# Altium footprint library USB3320C-EZK-TR.PcbLib: 3 footprints
Each footprint in its own frame and in the unit in brackets; x right, y up, seen from the top. Pads: shape width x height; smd on the part's side, far side on the other; paste and mask are expansions set on the pad; w line width, h text height; cw(c..) or ccw(c..) is an arc to the next point about the centre after c.
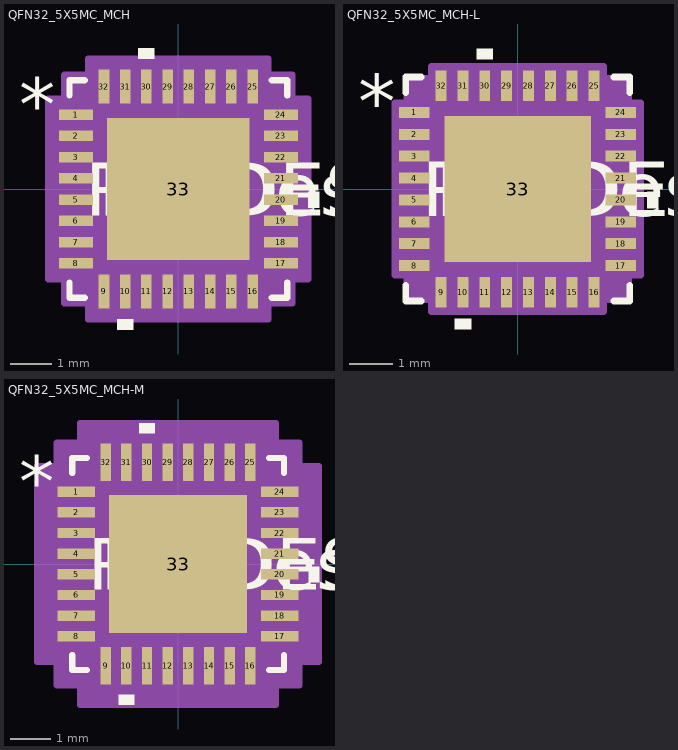
[diagram p0: the footprints below, top view; thin cyan lines are the x and y axes]

## QFN32_5X5MC_MCH [mil]
pads (33):
  rect 32x10 smd paste+0 mask+0: 1(-96.5,70) 2(-96.5,50) 3(-96.5,30) 4(-96.5,10) 5(-96.5,-10) 6(-96.5,-30) 7(-96.5,-50) 8(-96.5,-70) 17(96.5,-70) 18(96.5,-50) 19(96.5,-30) 20(96.5,-10) 21(96.5,10) 22(96.5,30) 23(96.5,50) 24(96.5,70)
  rect 10x32 smd paste+0 mask+0: 9(-70,-96.5) 10(-50,-96.5) 11(-30,-96.5) 12(-10,-96.5) 13(10,-96.5) 14(30,-96.5) 15(50,-96.5) 16(70,-96.5) 25(70,96.5) 26(50,96.5) 27(30,96.5) 28(10,96.5) 29(-10,96.5) 30(-30,96.5) 31(-50,96.5) 32(-70,96.5)
  rect 134x134 smd paste-66.5 mask-66.5: 33(0,0)
Top Overlay:
  region: -42.5,-122.5 -57.5,-122.5 -57.5,-132.5 -42.5,-132.5
  region: 122.5,-2.5 132.5,-2.5 132.5,-17.5 122.5,-17.5
  region: -22.5,122.5 -37.5,122.5 -37.5,132.5 -22.5,132.5
  lines w6: -102.5,-88.1 -102.5,-102.5 -88.1,-102.5 ; -102.5,88.1 -102.5,102.5 -88.1,102.5 ; 88.1,-102.5 102.5,-102.5 102.5,-88.1 ; 88.1,102.5 102.5,102.5 102.5,88.1
  text "*" at -150,55 h50
  text "RefDes" at -75,-25 h50
  text "REFDES" at -87.5,-25 h50
Top Paste:
  drawing of 25 lines, arcs and shapes, not listed
Top Solder:
  region: -69.5,54.37 -69.5,69.5 69.5,69.5 69.5,54.37
  region: -69.5,23.37 -69.5,38.63 69.5,38.63 69.5,23.37
  region: -69.5,-7.63 -69.5,7.63 69.5,7.63 69.5,-7.63
  region: -69.5,-38.63 -69.5,-23.37 69.5,-23.37 69.5,-38.63
  region: -69.5,-69.5 -69.5,-54.37 69.5,-54.37 69.5,-69.5
  region: -69.5,-69.5 -69.5,69.5 -54.37,69.5 -54.37,-69.5
  region: -23.37,-69.5 -23.37,69.5 -38.63,69.5 -38.63,-69.5
  region: 7.63,-69.5 7.63,69.5 -7.63,69.5 -7.63,-69.5
  region: 38.63,-69.5 38.63,69.5 23.37,69.5 23.37,-69.5
  region: 54.37,-69.5 54.37,69.5 69.5,69.5 69.5,-69.5
Mechanical 13:
  lines w1: -97.5,47.5 -47.5,97.5 ; -97.5,-97.5 97.5,-97.5 ; -97.5,-97.5 -97.5,97.5 ; -97.5,-97.5 -97.5,-97.5 ; -97.5,97.5 97.5,97.5 ; -97.5,97.5 -97.5,97.5 ; 97.5,-97.5 97.5,-97.5 ; 97.5,-97.5 97.5,97.5 ; 97.5,97.5 97.5,97.5 ; -100.5,-76 -100.5,-64 -97.5,-64 -97.5,-76 -100.5,-76 ; -100.5,-56 -100.5,-44 -97.5,-44 -97.5,-56 -100.5,-56 ; -100.5,-36 -100.5,-24 -97.5,-24 -97.5,-36 -100.5,-36 ; -100.5,-16 -100.5,-4 -97.5,-4 -97.5,-16 -100.5,-16 ; -100.5,4 -100.5,16 -97.5,16 -97.5,4 -100.5,4 ; -100.5,24 -100.5,36 -97.5,36 -97.5,24 -100.5,24 ; -100.5,44 -100.5,56 -97.5,56 -97.5,44 -100.5,44 ; -100.5,64 -100.5,76 -97.5,76 -97.5,64 -100.5,64 ; -76,-100.5 -76,-97.5 -64,-97.5 -64,-100.5 -76,-100.5 ; -76,97.5 -64,97.5 -64,100.5 -76,100.5 -76,97.5 ; -56,-100.5 -56,-97.5 -44,-97.5 -44,-100.5 -56,-100.5 ; -56,97.5 -44,97.5 -44,100.5 -56,100.5 -56,97.5 ; -36,-100.5 -36,-97.5 -24,-97.5 -24,-100.5 -36,-100.5 ; -36,97.5 -24,97.5 -24,100.5 -36,100.5 -36,97.5 ; -16,-100.5 -16,-97.5 -4,-97.5 -4,-100.5 -16,-100.5 ; -16,97.5 -4,97.5 -4,100.5 -16,100.5 -16,97.5 ; 4,-100.5 4,-97.5 16,-97.5 16,-100.5 4,-100.5 ; 4,97.5 16,97.5 16,100.5 4,100.5 4,97.5 ; 24,-100.5 24,-97.5 36,-97.5 36,-100.5 24,-100.5 ; 24,97.5 36,97.5 36,100.5 24,100.5 24,97.5 ; 44,-100.5 44,-97.5 56,-97.5 56,-100.5 44,-100.5 ; 44,97.5 56,97.5 56,100.5 44,100.5 44,97.5 ; 64,-100.5 64,-97.5 76,-97.5 76,-100.5 64,-100.5 ; 64,97.5 76,97.5 76,100.5 64,100.5 64,97.5 ; 97.5,-76 97.5,-64 100.5,-64 100.5,-76 97.5,-76 ; 97.5,-56 97.5,-44 100.5,-44 100.5,-56 97.5,-56 ; 97.5,-36 97.5,-24 100.5,-24 100.5,-36 97.5,-36 ; 97.5,-16 97.5,-4 100.5,-4 100.5,-16 97.5,-16 ; 97.5,4 97.5,16 100.5,16 100.5,4 97.5,4 ; 97.5,24 97.5,36 100.5,36 100.5,24 97.5,24 ; 97.5,44 97.5,56 100.5,56 100.5,44 97.5,44 ; 97.5,64 97.5,76 100.5,76 100.5,64 97.5,64
  text "*" at -93,55 h50
  text "RefDes2" at -87.5,-25 h50
Mechanical 15:
  region: -85,-107.5 -107.5,-107.5 -107.5,-85 -122.5,-85 -122.5,85 -107.5,85 -107.5,107.5 -85,107.5 -85,122.5 85,122.5 85,107.5 107.5,107.5 107.5,85 122.5,85 122.5,-85 107.5,-85 107.5,-107.5 85,-107.5 85,-122.5 -85,-122.5
  lines w6: -122.5,-85 -107.5,-85 -107.5,-107.5 -85,-107.5 -85,-122.5 85,-122.5 85,-107.5 107.5,-107.5 107.5,-85 122.5,-85 122.5,85 107.5,85 107.5,107.5 85,107.5 85,122.5 -85,122.5 -85,107.5 -107.5,107.5 -107.5,85 -122.5,85 -122.5,-85
Via Holes:
  circle w10: c-46.5,-46.5 r15
  circle w10: c-46.5,-15.5 r15
  circle w10: c-46.5,15.5 r15
  circle w10: c-46.5,46.5 r15
  circle w10: c-15.5,-46.5 r15
  circle w10: c-15.5,-15.5 r15
  circle w10: c-15.5,15.5 r15
  circle w10: c-15.5,46.5 r15
  circle w10: c15.5,-46.5 r15
  circle w10: c15.5,-15.5 r15
  circle w10: c15.5,15.5 r15
  circle w10: c15.5,46.5 r15
  circle w10: c46.5,-46.5 r15
  circle w10: c46.5,-15.5 r15
  circle w10: c46.5,15.5 r15
  circle w10: c46.5,46.5 r15
3D body "QFN32_5X5MC_MCH.step": height 65.12, standoff 0, extent -100.51,-100.51 100.51,100.51

## QFN32_5X5MC_MCH-L [mil]
pads (33):
  rect 28x10 smd paste+0 mask+0: 1(-94.5,70) 2(-94.5,50) 3(-94.5,30) 4(-94.5,10) 5(-94.5,-10) 6(-94.5,-30) 7(-94.5,-50) 8(-94.5,-70) 17(94.5,-70) 18(94.5,-50) 19(94.5,-30) 20(94.5,-10) 21(94.5,10) 22(94.5,30) 23(94.5,50) 24(94.5,70)
  rect 10x28 smd paste+0 mask+0: 9(-70,-94.5) 10(-50,-94.5) 11(-30,-94.5) 12(-10,-94.5) 13(10,-94.5) 14(30,-94.5) 15(50,-94.5) 16(70,-94.5) 25(70,94.5) 26(50,94.5) 27(30,94.5) 28(10,94.5) 29(-10,94.5) 30(-30,94.5) 31(-50,94.5) 32(-70,94.5)
  rect 134x134 smd paste-66.5 mask-66.5: 33(0,0)
Top Overlay:
  region: -42.5,-118.5 -57.5,-118.5 -57.5,-128.5 -42.5,-128.5
  region: 118.5,-2.5 128.5,-2.5 128.5,-17.5 118.5,-17.5
  region: -22.5,118.5 -37.5,118.5 -37.5,128.5 -22.5,128.5
  lines w6: -102.5,-88.1 -102.5,-102.5 -88.1,-102.5 ; -102.5,88.1 -102.5,102.5 -88.1,102.5 ; 88.1,-102.5 102.5,-102.5 102.5,-88.1 ; 88.1,102.5 102.5,102.5 102.5,88.1
  text "*" at -146,55 h50
  text "RefDes" at -75,-25 h50
  text "REFDES" at -87.5,-25 h50
Top Paste:
  drawing of 25 lines, arcs and shapes, not listed
Top Solder:
  region: -69.5,54.37 -69.5,69.5 69.5,69.5 69.5,54.37
  region: -69.5,23.37 -69.5,38.63 69.5,38.63 69.5,23.37
  region: -69.5,-7.63 -69.5,7.63 69.5,7.63 69.5,-7.63
  region: -69.5,-38.63 -69.5,-23.37 69.5,-23.37 69.5,-38.63
  region: -69.5,-69.5 -69.5,-54.37 69.5,-54.37 69.5,-69.5
  region: -69.5,-69.5 -69.5,69.5 -54.37,69.5 -54.37,-69.5
  region: -23.37,-69.5 -23.37,69.5 -38.63,69.5 -38.63,-69.5
  region: 7.63,-69.5 7.63,69.5 -7.63,69.5 -7.63,-69.5
  region: 38.63,-69.5 38.63,69.5 23.37,69.5 23.37,-69.5
  region: 54.37,-69.5 54.37,69.5 69.5,69.5 69.5,-69.5
Mechanical 13:
  lines w1: -97.5,47.5 -47.5,97.5 ; -97.5,-97.5 97.5,-97.5 ; -97.5,-97.5 -97.5,97.5 ; -97.5,-97.5 -97.5,-97.5 ; -97.5,97.5 97.5,97.5 ; -97.5,97.5 -97.5,97.5 ; 97.5,-97.5 97.5,-97.5 ; 97.5,-97.5 97.5,97.5 ; 97.5,97.5 97.5,97.5 ; -100.5,-76 -100.5,-64 -97.5,-64 -97.5,-76 -100.5,-76 ; -100.5,-56 -100.5,-44 -97.5,-44 -97.5,-56 -100.5,-56 ; -100.5,-36 -100.5,-24 -97.5,-24 -97.5,-36 -100.5,-36 ; -100.5,-16 -100.5,-4 -97.5,-4 -97.5,-16 -100.5,-16 ; -100.5,4 -100.5,16 -97.5,16 -97.5,4 -100.5,4 ; -100.5,24 -100.5,36 -97.5,36 -97.5,24 -100.5,24 ; -100.5,44 -100.5,56 -97.5,56 -97.5,44 -100.5,44 ; -100.5,64 -100.5,76 -97.5,76 -97.5,64 -100.5,64 ; -76,-100.5 -76,-97.5 -64,-97.5 -64,-100.5 -76,-100.5 ; -76,97.5 -64,97.5 -64,100.5 -76,100.5 -76,97.5 ; -56,-100.5 -56,-97.5 -44,-97.5 -44,-100.5 -56,-100.5 ; -56,97.5 -44,97.5 -44,100.5 -56,100.5 -56,97.5 ; -36,-100.5 -36,-97.5 -24,-97.5 -24,-100.5 -36,-100.5 ; -36,97.5 -24,97.5 -24,100.5 -36,100.5 -36,97.5 ; -16,-100.5 -16,-97.5 -4,-97.5 -4,-100.5 -16,-100.5 ; -16,97.5 -4,97.5 -4,100.5 -16,100.5 -16,97.5 ; 4,-100.5 4,-97.5 16,-97.5 16,-100.5 4,-100.5 ; 4,97.5 16,97.5 16,100.5 4,100.5 4,97.5 ; 24,-100.5 24,-97.5 36,-97.5 36,-100.5 24,-100.5 ; 24,97.5 36,97.5 36,100.5 24,100.5 24,97.5 ; 44,-100.5 44,-97.5 56,-97.5 56,-100.5 44,-100.5 ; 44,97.5 56,97.5 56,100.5 44,100.5 44,97.5 ; 64,-100.5 64,-97.5 76,-97.5 76,-100.5 64,-100.5 ; 64,97.5 76,97.5 76,100.5 64,100.5 64,97.5 ; 97.5,-76 97.5,-64 100.5,-64 100.5,-76 97.5,-76 ; 97.5,-56 97.5,-44 100.5,-44 100.5,-56 97.5,-56 ; 97.5,-36 97.5,-24 100.5,-24 100.5,-36 97.5,-36 ; 97.5,-16 97.5,-4 100.5,-4 100.5,-16 97.5,-16 ; 97.5,4 97.5,16 100.5,16 100.5,4 97.5,4 ; 97.5,24 97.5,36 100.5,36 100.5,24 97.5,24 ; 97.5,44 97.5,56 100.5,56 100.5,44 97.5,44 ; 97.5,64 97.5,76 100.5,76 100.5,64 97.5,64
  text "*" at -93,55 h50
  text "RefDes2" at -87.5,-25 h50
Mechanical 15:
  region: -79,-101.5 -101.5,-101.5 -101.5,-79 -112.5,-79 -112.5,79 -101.5,79 -101.5,101.5 -79,101.5 -79,112.5 79,112.5 79,101.5 101.5,101.5 101.5,79 112.5,79 112.5,-79 101.5,-79 101.5,-101.5 79,-101.5 79,-112.5 -79,-112.5
  lines w6: -112.5,-79 -101.5,-79 -101.5,-101.5 -79,-101.5 -79,-112.5 79,-112.5 79,-101.5 101.5,-101.5 101.5,-79 112.5,-79 112.5,79 101.5,79 101.5,101.5 79,101.5 79,112.5 -79,112.5 -79,101.5 -101.5,101.5 -101.5,79 -112.5,79 -112.5,-79
Via Holes:
  circle w10: c-46.5,-46.5 r15
  circle w10: c-46.5,-15.5 r15
  circle w10: c-46.5,15.5 r15
  circle w10: c-46.5,46.5 r15
  circle w10: c-15.5,-46.5 r15
  circle w10: c-15.5,-15.5 r15
  circle w10: c-15.5,15.5 r15
  circle w10: c-15.5,46.5 r15
  circle w10: c15.5,-46.5 r15
  circle w10: c15.5,-15.5 r15
  circle w10: c15.5,15.5 r15
  circle w10: c15.5,46.5 r15
  circle w10: c46.5,-46.5 r15
  circle w10: c46.5,-15.5 r15
  circle w10: c46.5,15.5 r15
  circle w10: c46.5,46.5 r15
3D body "QFN32_5X5MC_MCH.step": height 65.12, standoff 0, extent -100.51,-100.51 100.51,100.51

## QFN32_5X5MC_MCH-M [mil]
pads (33):
  rect 36x10 smd paste+0 mask+0: 1(-98.5,70) 2(-98.5,50) 3(-98.5,30) 4(-98.5,10) 5(-98.5,-10) 6(-98.5,-30) 7(-98.5,-50) 8(-98.5,-70) 17(98.5,-70) 18(98.5,-50) 19(98.5,-30) 20(98.5,-10) 21(98.5,10) 22(98.5,30) 23(98.5,50) 24(98.5,70)
  rect 10x36 smd paste+0 mask+0: 9(-70,-98.5) 10(-50,-98.5) 11(-30,-98.5) 12(-10,-98.5) 13(10,-98.5) 14(30,-98.5) 15(50,-98.5) 16(70,-98.5) 25(70,98.5) 26(50,98.5) 27(30,98.5) 28(10,98.5) 29(-10,98.5) 30(-30,98.5) 31(-50,98.5) 32(-70,98.5)
  rect 134x134 smd paste-66.5 mask-66.5: 33(0,0)
Top Overlay:
  region: -42.5,-126.5 -57.5,-126.5 -57.5,-136.5 -42.5,-136.5
  region: 126.5,-2.5 136.5,-2.5 136.5,-17.5 126.5,-17.5
  region: -22.5,126.5 -37.5,126.5 -37.5,136.5 -22.5,136.5
  lines w6: -102.5,-88.1 -102.5,-102.5 -88.1,-102.5 ; -102.5,88.1 -102.5,102.5 -88.1,102.5 ; 88.1,-102.5 102.5,-102.5 102.5,-88.1 ; 88.1,102.5 102.5,102.5 102.5,88.1
  text "*" at -154,55 h50
  text "RefDes" at -75,-25 h50
  text "REFDES" at -87.5,-25 h50
Top Paste:
  drawing of 25 lines, arcs and shapes, not listed
Top Solder:
  region: -69.5,54.37 -69.5,69.5 69.5,69.5 69.5,54.37
  region: -69.5,23.37 -69.5,38.63 69.5,38.63 69.5,23.37
  region: -69.5,-7.63 -69.5,7.63 69.5,7.63 69.5,-7.63
  region: -69.5,-38.63 -69.5,-23.37 69.5,-23.37 69.5,-38.63
  region: -69.5,-69.5 -69.5,-54.37 69.5,-54.37 69.5,-69.5
  region: -69.5,-69.5 -69.5,69.5 -54.37,69.5 -54.37,-69.5
  region: -23.37,-69.5 -23.37,69.5 -38.63,69.5 -38.63,-69.5
  region: 7.63,-69.5 7.63,69.5 -7.63,69.5 -7.63,-69.5
  region: 38.63,-69.5 38.63,69.5 23.37,69.5 23.37,-69.5
  region: 54.37,-69.5 54.37,69.5 69.5,69.5 69.5,-69.5
Mechanical 13:
  lines w1: -97.5,47.5 -47.5,97.5 ; -97.5,-97.5 97.5,-97.5 ; -97.5,-97.5 -97.5,97.5 ; -97.5,-97.5 -97.5,-97.5 ; -97.5,97.5 97.5,97.5 ; -97.5,97.5 -97.5,97.5 ; 97.5,-97.5 97.5,-97.5 ; 97.5,-97.5 97.5,97.5 ; 97.5,97.5 97.5,97.5 ; -100.5,-76 -100.5,-64 -97.5,-64 -97.5,-76 -100.5,-76 ; -100.5,-56 -100.5,-44 -97.5,-44 -97.5,-56 -100.5,-56 ; -100.5,-36 -100.5,-24 -97.5,-24 -97.5,-36 -100.5,-36 ; -100.5,-16 -100.5,-4 -97.5,-4 -97.5,-16 -100.5,-16 ; -100.5,4 -100.5,16 -97.5,16 -97.5,4 -100.5,4 ; -100.5,24 -100.5,36 -97.5,36 -97.5,24 -100.5,24 ; -100.5,44 -100.5,56 -97.5,56 -97.5,44 -100.5,44 ; -100.5,64 -100.5,76 -97.5,76 -97.5,64 -100.5,64 ; -76,-100.5 -76,-97.5 -64,-97.5 -64,-100.5 -76,-100.5 ; -76,97.5 -64,97.5 -64,100.5 -76,100.5 -76,97.5 ; -56,-100.5 -56,-97.5 -44,-97.5 -44,-100.5 -56,-100.5 ; -56,97.5 -44,97.5 -44,100.5 -56,100.5 -56,97.5 ; -36,-100.5 -36,-97.5 -24,-97.5 -24,-100.5 -36,-100.5 ; -36,97.5 -24,97.5 -24,100.5 -36,100.5 -36,97.5 ; -16,-100.5 -16,-97.5 -4,-97.5 -4,-100.5 -16,-100.5 ; -16,97.5 -4,97.5 -4,100.5 -16,100.5 -16,97.5 ; 4,-100.5 4,-97.5 16,-97.5 16,-100.5 4,-100.5 ; 4,97.5 16,97.5 16,100.5 4,100.5 4,97.5 ; 24,-100.5 24,-97.5 36,-97.5 36,-100.5 24,-100.5 ; 24,97.5 36,97.5 36,100.5 24,100.5 24,97.5 ; 44,-100.5 44,-97.5 56,-97.5 56,-100.5 44,-100.5 ; 44,97.5 56,97.5 56,100.5 44,100.5 44,97.5 ; 64,-100.5 64,-97.5 76,-97.5 76,-100.5 64,-100.5 ; 64,97.5 76,97.5 76,100.5 64,100.5 64,97.5 ; 97.5,-76 97.5,-64 100.5,-64 100.5,-76 97.5,-76 ; 97.5,-56 97.5,-44 100.5,-44 100.5,-56 97.5,-56 ; 97.5,-36 97.5,-24 100.5,-24 100.5,-36 97.5,-36 ; 97.5,-16 97.5,-4 100.5,-4 100.5,-16 97.5,-16 ; 97.5,4 97.5,16 100.5,16 100.5,4 97.5,4 ; 97.5,24 97.5,36 100.5,36 100.5,24 97.5,24 ; 97.5,44 97.5,56 100.5,56 100.5,44 97.5,44 ; 97.5,64 97.5,76 100.5,76 100.5,64 97.5,64
  text "*" at -93,55 h50
  text "RefDes2" at -87.5,-25 h50
Mechanical 15:
  region: -95,-117.5 -117.5,-117.5 -117.5,-95 -136.5,-95 -136.5,95 -117.5,95 -117.5,117.5 -95,117.5 -95,136.5 95,136.5 95,117.5 117.5,117.5 117.5,95 136.5,95 136.5,-95 117.5,-95 117.5,-117.5 95,-117.5 95,-136.5 -95,-136.5
  lines w6: -136.5,-95 -117.5,-95 -117.5,-117.5 -95,-117.5 -95,-136.5 95,-136.5 95,-117.5 117.5,-117.5 117.5,-95 136.5,-95 136.5,95 117.5,95 117.5,117.5 95,117.5 95,136.5 -95,136.5 -95,117.5 -117.5,117.5 -117.5,95 -136.5,95 -136.5,-95
Via Holes:
  circle w10: c-46.5,-46.5 r15
  circle w10: c-46.5,-15.5 r15
  circle w10: c-46.5,15.5 r15
  circle w10: c-46.5,46.5 r15
  circle w10: c-15.5,-46.5 r15
  circle w10: c-15.5,-15.5 r15
  circle w10: c-15.5,15.5 r15
  circle w10: c-15.5,46.5 r15
  circle w10: c15.5,-46.5 r15
  circle w10: c15.5,-15.5 r15
  circle w10: c15.5,15.5 r15
  circle w10: c15.5,46.5 r15
  circle w10: c46.5,-46.5 r15
  circle w10: c46.5,-15.5 r15
  circle w10: c46.5,15.5 r15
  circle w10: c46.5,46.5 r15
3D body "QFN32_5X5MC_MCH.step": height 65.12, standoff 0, extent -100.51,-100.51 100.51,100.51